# Altium schematic symbol library SensorBoardSchLib.SchLib: 7 symbols
Pins are listed as number, name and electrical type; pins without a type are passive.

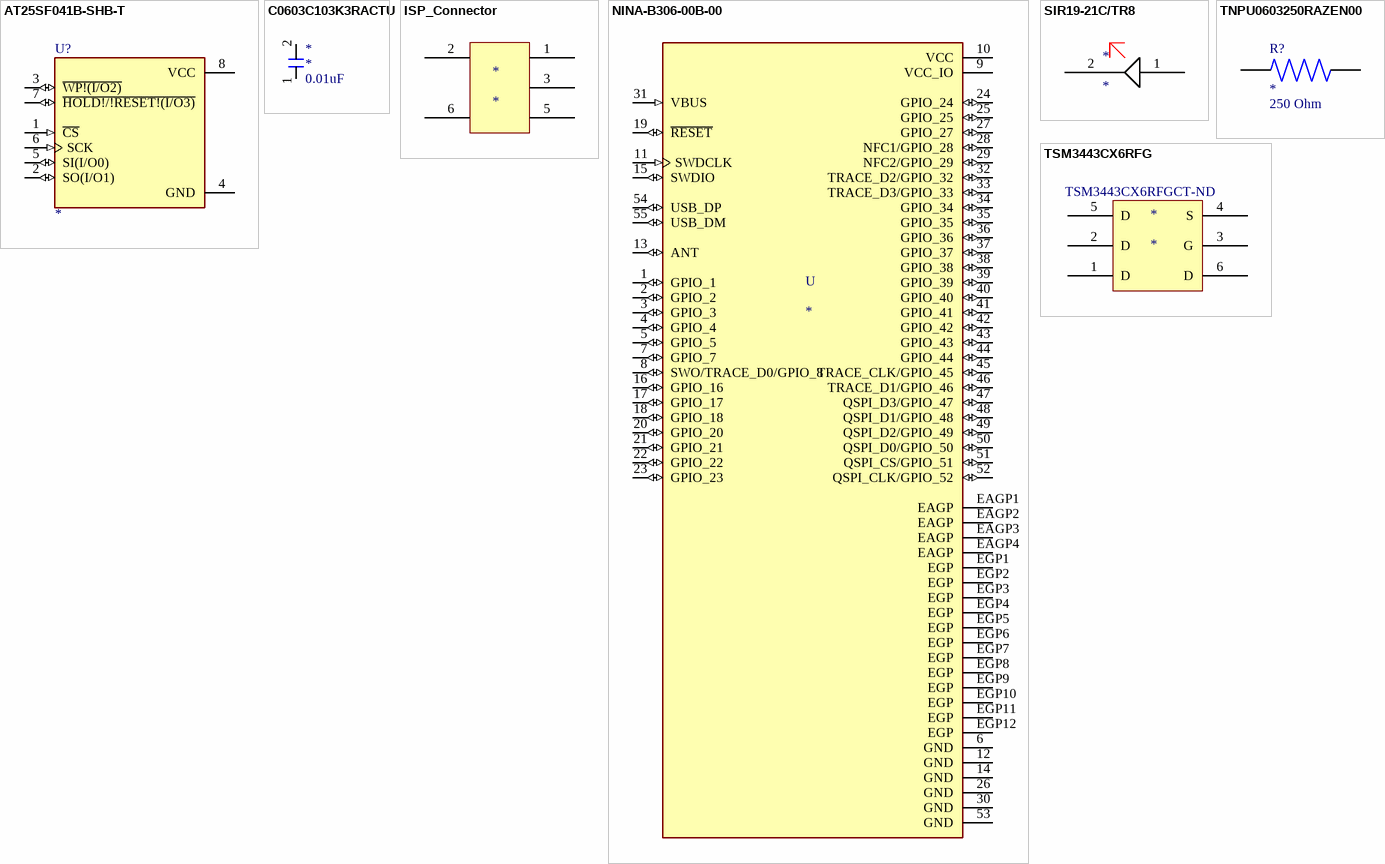
[diagram p0: symbols AT25SF041B-SHB-T to TSM3443CX6RFG]

## AT25SF041B-SHB-T
designator U?
4 Mbit, 3.0V (2.7V to 3.6V), -40C to 85C, SOIC-W 208mil (Tape & Reel), Single, Dual, Quad SPI NOR flash; MP: AT25SF041B-SHB-T; MF: Dialog Semiconductor; SnapEDA_Link: https://www.snapeda.com/parts/AT25SF041B-SHB-T/Dialog%20Semiconductor/view-part/5488498/?ref=snap; Price: None; Purchase-URL: https://pricing.snapeda.com/search/part/AT25SF041B-SHB-T/?ref=eda; Package: SOIC-8 Dialog Semiconductor; Availability: Warning; Check_prices: https://www.snapeda.com/parts/AT25SF041B-SHB-T/Dialog%20Semiconductor/view-part/5488498/?ref=eda; Value: *; Supplier 1: Digi-Key; Supplier Part Number 1: 1265-AT25SF041B-SHB-TCT-ND
footprint SOIC127P790X216-8N
pins: 1 ~{CS} (in), 2 SO(I/O1) (io), 3 ~{WP!(I/O2)} (io), 4 GND (power), 5 SI(I/O0) (io), 6 SCK (in), 7 ~{HOLD!/!RESET!(I/O3)} (io), 8 VCC (power)

## C0603C103K3RACTU
designator *  Capacitance: 0.01uF
Supplier 1: Digi-Key; Supplier Part Number 1: 399-C0603C103K3RAC7867CT-ND
footprint RESC1608X55N
pins: 1, 2

## ISP_Connector
designator *
footprint JST Programmer
pins: 1 VDD, 2 SWDIO, 3 SWCLK, 5 GND, 6 RESETN

## NINA-B306-00B-00
designator U
With internal PCB antenna, 10.0 x 15.0 x 2.2 mm, use with open CPU; MP: NINA-B306-00B-00; MF: u-blox; Value: *; Package: SMD-55 u-blox; Price: None; Availability: Unavailable; SnapEDA_Link: https://www.snapeda.com/parts/NINA-B306-00B-00/u-blox/view-part/4176731/?ref=snap
footprint XCVR_NINA-B306-00B-00
pins: 1 GPIO_1 (io), 2 GPIO_2 (io), 3 GPIO_3 (io), 4 GPIO_4 (io), 5 GPIO_5 (io), 6 GND (power), 7 GPIO_7 (io), 8 SWO/TRACE_D0/GPIO_8 (io), 9 VCC_IO (power), 10 VCC (power), 11 SWDCLK (in), 12 GND (power), 13 ANT (io), 14 GND (power), 15 SWDIO (io), 16 GPIO_16 (io), 17 GPIO_17 (io), 18 GPIO_18 (io), 19 ~{RESET} (io), 20 GPIO_20 (io), 21 GPIO_21 (io), 22 GPIO_22 (io), 23 GPIO_23 (io), 24 GPIO_24 (io), 25 GPIO_25 (io), 26 GND (power), 27 GPIO_27 (io), 28 NFC1/GPIO_28 (io), 29 NFC2/GPIO_29 (io), 30 GND (power), 31 VBUS (in), 32 TRACE_D2/GPIO_32 (io), 33 TRACE_D3/GPIO_33 (io), 34 GPIO_34 (io), 35 GPIO_35 (io), 36 GPIO_36 (io), 37 GPIO_37 (io), 38 GPIO_38 (io), 39 GPIO_39 (io), 40 GPIO_40 (io), 41 GPIO_41 (io), 42 GPIO_42 (io), 43 GPIO_43 (io), 44 GPIO_44 (io), 45 TRACE_CLK/GPIO_45 (io), 46 TRACE_D1/GPIO_46 (io), 47 QSPI_D3/GPIO_47 (io), 48 QSPI_D1/GPIO_48 (io), 49 QSPI_D2/GPIO_49 (io), 50 QSPI_D0/GPIO_50 (io), 51 QSPI_CS/GPIO_51 (io), 52 QSPI_CLK/GPIO_52 (io), 53 GND (power), 54 USB_DP (io), 55 USB_DM (io), EAGP1 EAGP (power), EAGP2 EAGP (power), EAGP3 EAGP (power), EAGP4 EAGP (power), EGP1 EGP (power), EGP2 EGP (power), EGP3 EGP (power), EGP4 EGP (power), EGP5 EGP (power), EGP6 EGP (power), EGP7 EGP (power), EGP8 EGP (power), EGP9 EGP (power), EGP10 EGP (power), EGP11 EGP (power), EGP12 EGP (power)

## SIR19-21C/TR8
designator *
footprint SIR19-21C/TR8
pins: 1, 2

## TNPU0603250RAZEN00
designator R?  Resistance: 250 Ohm
MP: TNPU0603250RAZEN00; Package: None; Price: None; Value: *; Availability: Unavailable; Supplier 1: Mouser; Supplier Part Number 1: 71-TNPU0603250RAZEN0
footprint TNPW0603250RBEEN
pins: 1, 2

## TSM3443CX6RFG
designator *  Supplier Part Number 1: TSM3443CX6RFGCT-ND
Supplier 1: Digi-Key
footprint SOT95P280X145-6N
pins: 1 D, 2 D, 3 G, 4 S, 5 D, 6 D